# EAGLE library part AD7193 (library LinnesLab-DigitalIC)
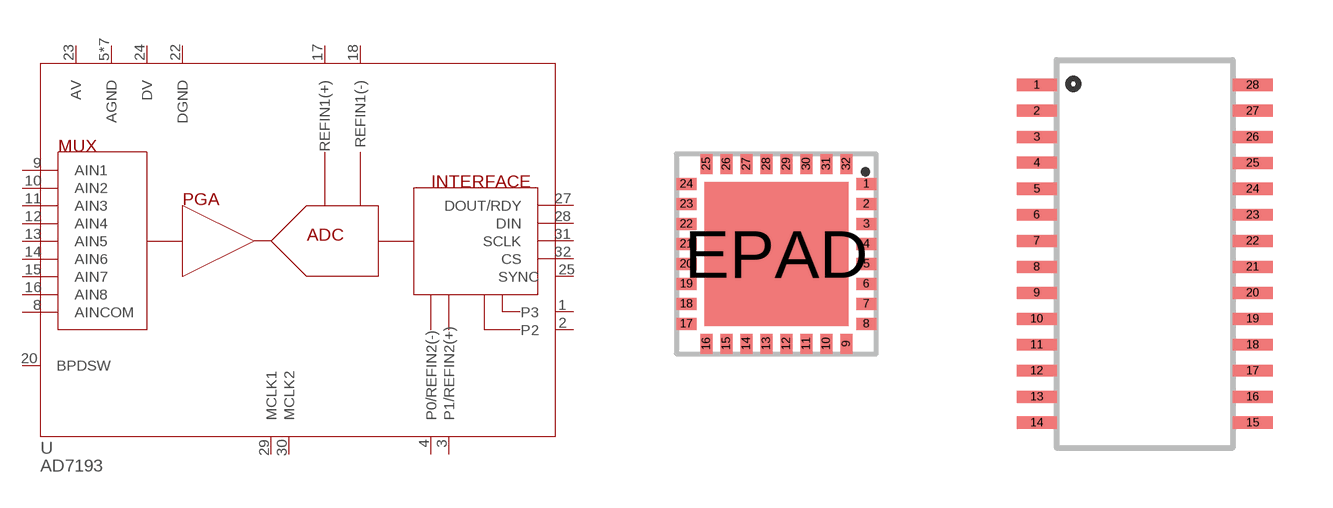
[diagram p16: symbol with the pads of LFCSP32; footprints LFCSP32, TSSOP28]

Designator prefix U

## AD7193  [LFCSP32]
1  P3
2  P2
3  P1/REFIN2(+)
4  P0/REFIN2(-)
5  AGND
6  AGND
7  AGND
8  AINCOM
9  AIN1
10  AIN2
11  AIN3
12  AIN4
13  AIN5
14  AIN6
15  AIN7
16  AIN8
17  REFIN1(+)
18  REFIN1(-)
19  AGND
20  BPDSW
21  AGND
22  DGND
23  AV
24  DV
25  SYNC
26  AGND
27  DOUT/RDY
28  DIN
29  MCLK1
30  MCLK2
31  SCLK
32  CS
EPAD  AGND

## AD7193TSSOP28  [TSSOP28]
1  MCLK1
2  MCLK2
3  SCLK
4  CS
5  P3
6  P2
7  REFIN1(+)
8  REFIN1(-)
9  AGND
10  AINCOM
11  AIN1
12  AIN2
13  AIN3
14  AIN4
15  AIN5
16  AIN6
17  AIN7
18  AIN8
19  P1/REFIN2(+)
20  P0/REFIN2(-)
21  BPDSW
22  AGND
23  DGND
24  AV
25  DV
26  SYNC
27  DOUT/RDY
28  DIN

## Footprint LFCSP32 (pad centres in mm)
smd 0.5 x 0.3: 1 2.25,1.75; 2 2.25,1.25; 3 2.25,0.75; 4 2.25,0.25; 5 2.25,-0.25; 6 2.25,-0.75; 7 2.25,-1.25; 8 2.25,-1.75; 17 -2.25,-1.75; 18 -2.25,-1.25; 19 -2.25,-0.75; 20 -2.25,-0.25; 21 -2.25,0.25; 22 -2.25,0.75; 23 -2.25,1.25; 24 -2.25,1.75
smd 0.3 x 0.5: 9 1.75,-2.25; 10 1.25,-2.25; 11 0.75,-2.25; 12 0.25,-2.25; 13 -0.25,-2.25; 14 -0.75,-2.25; 15 -1.25,-2.25; 16 -1.75,-2.25; 25 -1.75,2.25; 26 -1.25,2.25; 27 -0.75,2.25; 28 -0.25,2.25; 29 0.25,2.25; 30 0.75,2.25; 31 1.25,2.25; 32 1.75,2.25
smd 3.6 x 3.6: EPAD 0,0

## Footprint TSSOP28 (pad centres in mm)
smd 1 x 0.3: 1 -2.7,4.225; 2 -2.7,3.575; 3 -2.7,2.925; 4 -2.7,2.278; 5 -2.7,1.625; 6 -2.7,0.975; 7 -2.7,0.325; 8 -2.7,-0.325; 9 -2.7,-0.975; 10 -2.7,-1.625; 11 -2.7,-2.275; 12 -2.7,-2.925; 13 -2.7,-3.575; 14 -2.7,-4.225; 15 2.7,-4.225; 16 2.7,-3.575; 17 2.7,-2.925; 18 2.7,-2.275; 19 2.7,-1.625; 20 2.7,-0.975; 21 2.7,-0.325; 22 2.7,0.325; 23 2.7,0.975; 24 2.7,1.625; 25 2.7,2.275; 26 2.7,2.925; 27 2.7,3.575; 28 2.7,4.225